# EAGLE library part HT16K33 (library pavlo)
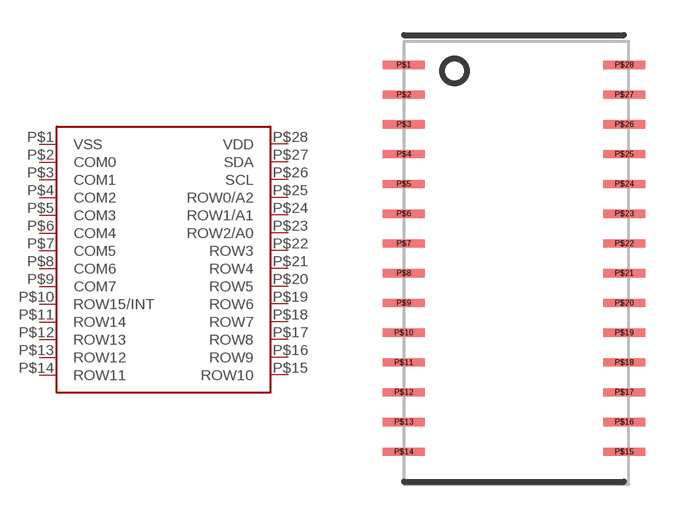
[diagram p14: symbol with the pads of SOIC28-W; footprint SOIC28-W]

Designator prefix -

## HT16K33  [SOIC28-W]
P$1  VSS
P$2  COM0
P$3  COM1
P$4  COM2
P$5  COM3
P$6  COM4
P$7  COM5
P$8  COM6
P$9  COM7
P$10  ROW15/INT
P$11  ROW14
P$12  ROW13
P$13  ROW12
P$14  ROW11
P$15  ROW10
P$16  ROW9
P$17  ROW8
P$18  ROW7
P$19  ROW6
P$20  ROW5
P$21  ROW4
P$22  ROW3
P$23  ROW2/A0
P$24  ROW1/A1
P$25  ROW0/A2
P$26  SCL
P$27  SDA
P$28  VDD

## Footprint SOIC28-W (pad centres in mm)
SOIC 28 PIN WIDE
smd 1.8 x 0.35: P$1 -4.6,8.4; P$2 -4.6,7.13; P$3 -4.6,5.86; P$4 -4.6,4.59; P$5 -4.6,3.32; P$6 -4.6,2.05; P$7 -4.6,0.78; P$8 -4.6,-0.49; P$9 -4.6,-1.76; P$10 -4.6,-3.03; P$11 -4.6,-4.3; P$12 -4.6,-5.57; P$13 -4.6,-6.84; P$14 -4.6,-8.11; P$15 4.8,-8.11; P$16 4.8,-6.84; P$17 4.8,-5.57; P$18 4.8,-4.3; P$19 4.8,-3.03; P$20 4.8,-1.76; P$21 4.8,-0.49; P$22 4.8,0.78; P$23 4.8,2.05; P$24 4.8,3.32; P$25 4.8,4.59; P$26 4.8,5.86; P$27 4.8,7.13; P$28 4.8,8.4